# Altium schematic symbol library Components.SchLib: 4 symbols
Pins are listed as number, name and electrical type; pins without a type are passive.

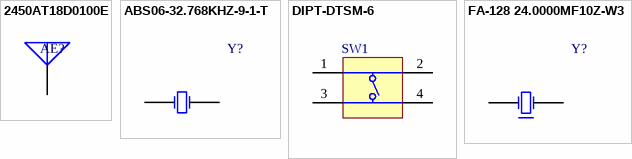
[diagram p0: symbols 2450AT18D0100E to FA-128 24.0000MF10Z-W3]

## 2450AT18D0100E
designator AE?  (value not drawn)
Manufacturer: Johanson Technology Inc.; PartNumber: 2450AT18D0100E; Mounting Technology: Surface Mount
footprint ANTENNA
pins: 1

## ABS06-32.768KHZ-9-1-T
designator Y?
PartNumber: ABS06-32.768KHZ-9-1-T; Manufacturer: Abracon; Mounting Technology: Surface Mount; PackageReference: 4-SMD
footprint CRYSTAL_2.0x1.2
pins: 1 X1, 2 X2

## DIPT-DTSM-6
designator SW1
Switch, SPNO Push Button SMD; Manufacturer: C&K Components; PartNumber: PTS810 SJM 250 SMTR LFS; Packing Type: Tape&Reel; Mechanical Life: 200,000 cycles; ComponentLink2URL: http://www.dip.com.tw/Products_tact.htm; ComponentLink1URL: http://www.dip.com.tw/; ComponentLink3URL: http://www.dip.com.tw/PDF/pro_tact/DTSM_G_-6_2_-V.pdf; PackageDescription: Switch, Surface Mount, 4 Leads, Body 4.6x2.8mm, Height 1.9mm; ComponentLink2Description: Datasheet; ComponentLink3Description: Package Specification; ComponentLink1Description: Manufacturer URL; PackageReference: PTS810; Mounting Technology: Surface Mount
footprint SWITCH
footprint SWITCH
pins: 1 T1, 2 T2, 3 T3, 4 T3

## FA-128 24.0000MF10Z-W3
designator Y?
PartNumber: FA-128 24.0000MF10Z-W3; Manufacturer: EPSON; Mounting Technology: Surface Mount; PackageReference: 4-SMD
footprint CRYSTAL_2.0x1.6
pins: 1 X1, 2, 3 X2